# Altium integrated library Cypress Clocks & Buffers Clock Distribution.IntLib: 321 symbols (part 4 of 25)
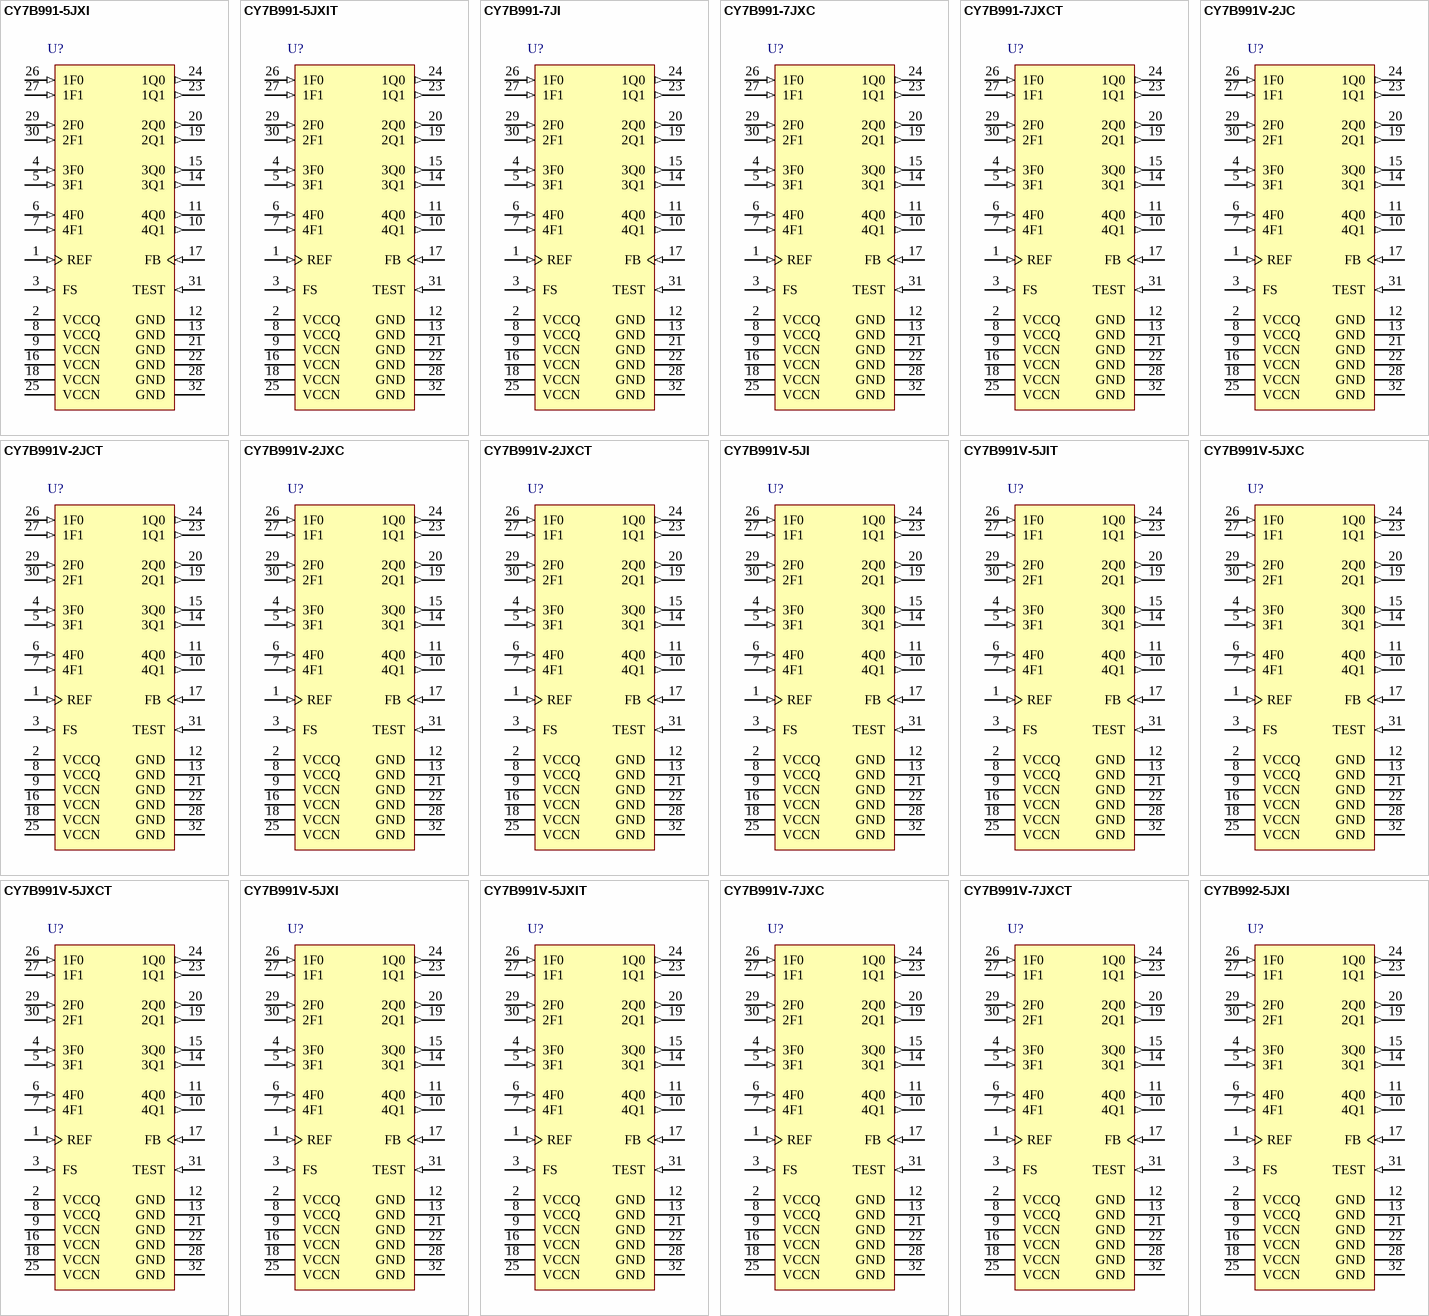
[diagram p19: symbols CY7B991-5JXI to CY7B992-5JXI]

## CY7B991-7JXC
designator U?
Programmable Skew Clock Buffer, 5 V, 8 Outputs, 3.75 to 80 MHz, 0 to 70 degC, 32-Pin PLCC (JX32), Tube; Manufacturer: Cypress; PartNumber: CY7B991-7JXC; Input Frequency Max. (MHz): 80; Input Frequency Min. (MHz): 3.75; Max. Operating Voltage (V): 5.5; Min. Operating Voltage (V): 4.5; No. of Outputs: 8; DatasheetVersion: Rev. *K; PackageVersion: Rev. *D, 07/2011; PackageReference: JX32; PackageDescription: 32-Pin Plastic Leaded Chip Carrier, Body 13.97 x 11.43 mm, Pitch 1.27 mm; Supplier 1: Digi-Key; Supplier Part Number 1: 428-1717-5-ND; Supplier 2: Farnell; Supplier Part Number 2: 1876333; Supplier 3: Newark; Supplier Part Number 3: 19M2623; Supplier 4: Mouser; Supplier Part Number 4: 727-CY7B991-7JXC; Max. Operating Temp. (degreesC): 70; Min. Operating Temp. (degreesC): 0; Output Frequency Max. (MHz): 80; Output Frequency Min. (MHz): 3.75; Packing: Tube; RoHS: Pb-Free; Mounting Technology: Surface Mount; ComponentLink1Description: Manufacturer URL; ComponentLink1URL: http://www.cypress.com/; ComponentLink2Description: Datasheet; ComponentLink2URL: http://www.cypress.com/?docID=48627; ComponentLink3Description: Package Specification; ComponentLink3URL: http://www.cypress.com/?docID=39130
footprint CYP-JX32_N (PLCC, 32-Leads, Body 14.05x11.51mm, Pitch 1.27mm, IPC Medium Density)
footprint CYP-JX32_L (PLCC, 32-Leads, Body 14.05x11.51mm, Pitch 1.27mm, IPC High Density)
footprint CYP-JX32_M (PLCC, 32-Leads, Body 14.05x11.51mm, Pitch 1.27mm, IPC Low Density)
pins: 1 REF (in) "Reference frequency input. This input supplies the frequency and timing against which all functional variations are measured.", 2 VCCQ (power) "Power supply for internal circuitry.", 3 FS (in) "Three level frequency range select. See Table 1.", 4 3F0 (in) "Three level function select inputs for output pair 3 (3Q0, 3Q1). See Table 2.", 5 3F1 (in) "Three level function select inputs for output pair 3 (3Q0, 3Q1). See Table 2.", 6 4F0 (in) "Three level function select inputs for output pair 4 (4Q0, 4Q1). See Table 2.", 7 4F1 (in) "Three level function select inputs for output pair 4 (4Q0, 4Q1). See Table 2.", 8 VCCQ (power) "Power supply for internal circuitry.", 9 VCCN (power) "Power supply for output drivers.", 10 4Q1 (out) "Output pair 4. See Table 2.", 11 4Q0 (out) "Output pair 4. See Table 2.", 12 GND (power) "Ground.", 13 GND (power) "Ground.", 14 3Q1 (out) "Output pair 3. See Table 2.", 15 3Q0 (out) "Output pair 3. See Table 2.", 16 VCCN (power) "Power supply for output drivers.", 17 FB (in) "PLL feedback input (typically connected to one of the eight outputs).", 18 VCCN (power) "Power supply for output drivers.", 19 2Q1 (out) "Output pair 2. See Table 2.", 20 2Q0 (out) "Output pair 2. See Table 2.", 21 GND (power) "Ground.", 22 GND (power) "Ground.", 23 1Q1 (out) "Output pair 1. See Table 2.", 24 1Q0 (out) "Output pair 1. See Table 2.", 25 VCCN (power) "Power supply for output drivers.", 26 1F0 (in) "Three level function select inputs for output pair 1 (1Q0, 1Q1). See Table 2.", 27 1F1 (in) "Three level function select inputs for output pair 1 (1Q0, 1Q1). See Table 2.", 28 GND (power) "Ground.", 29 2F0 (in) "Three level function select inputs for output pair 2 (2Q0, 2Q1). See Table 2.", 30 2F1 (in) "Three level function select inputs for output pair 2 (2Q0, 2Q1). See Table 2.", 31 TEST (in) "Three level select. See Test Mode on page 5 under the Block Diagram Description on page 4.", 32 GND (power) "Ground."

## CY7B991-7JXCT
designator U?
Programmable Skew Clock Buffer, 5 V, 8 Outputs, 3.75 to 80 MHz, 0 to 70 degC, 32-Pin PLCC (JX32), Tape and Reel; Manufacturer: Cypress; PartNumber: CY7B991-7JXCT; Input Frequency Max. (MHz): 80; Input Frequency Min. (MHz): 3.75; Max. Operating Voltage (V): 5.5; Min. Operating Voltage (V): 4.5; No. of Outputs: 8; DatasheetVersion: Rev. *K; PackageVersion: Rev. *D, 07/2011; PackageReference: JX32; PackageDescription: 32-Pin Plastic Leaded Chip Carrier, Body 13.97 x 11.43 mm, Pitch 1.27 mm; Supplier 1: Digi-Key; Supplier Part Number 1: CY7B991-7JXCT-ND; Supplier 2: Mouser; Supplier Part Number 2: 727-CY7B9917JXCT; Max. Operating Temp. (degreesC): 70; Min. Operating Temp. (degreesC): 0; Output Frequency Max. (MHz): 80; Output Frequency Min. (MHz): 3.75; Packing: Tape and Reel; RoHS: Pb-Free; Mounting Technology: Surface Mount; ComponentLink1Description: Manufacturer URL; ComponentLink1URL: http://www.cypress.com/; ComponentLink2Description: Datasheet; ComponentLink2URL: http://www.cypress.com/?docID=48627; ComponentLink3Description: Package Specification; ComponentLink3URL: http://www.cypress.com/?docID=39130
footprint CYP-JX32_N (PLCC, 32-Leads, Body 14.05x11.51mm, Pitch 1.27mm, IPC Medium Density)
footprint CYP-JX32_L (PLCC, 32-Leads, Body 14.05x11.51mm, Pitch 1.27mm, IPC High Density)
footprint CYP-JX32_M (PLCC, 32-Leads, Body 14.05x11.51mm, Pitch 1.27mm, IPC Low Density)
pins: 1 REF (in) "Reference frequency input. This input supplies the frequency and timing against which all functional variations are measured.", 2 VCCQ (power) "Power supply for internal circuitry.", 3 FS (in) "Three level frequency range select. See Table 1.", 4 3F0 (in) "Three level function select inputs for output pair 3 (3Q0, 3Q1). See Table 2.", 5 3F1 (in) "Three level function select inputs for output pair 3 (3Q0, 3Q1). See Table 2.", 6 4F0 (in) "Three level function select inputs for output pair 4 (4Q0, 4Q1). See Table 2.", 7 4F1 (in) "Three level function select inputs for output pair 4 (4Q0, 4Q1). See Table 2.", 8 VCCQ (power) "Power supply for internal circuitry.", 9 VCCN (power) "Power supply for output drivers.", 10 4Q1 (out) "Output pair 4. See Table 2.", 11 4Q0 (out) "Output pair 4. See Table 2.", 12 GND (power) "Ground.", 13 GND (power) "Ground.", 14 3Q1 (out) "Output pair 3. See Table 2.", 15 3Q0 (out) "Output pair 3. See Table 2.", 16 VCCN (power) "Power supply for output drivers.", 17 FB (in) "PLL feedback input (typically connected to one of the eight outputs).", 18 VCCN (power) "Power supply for output drivers.", 19 2Q1 (out) "Output pair 2. See Table 2.", 20 2Q0 (out) "Output pair 2. See Table 2.", 21 GND (power) "Ground.", 22 GND (power) "Ground.", 23 1Q1 (out) "Output pair 1. See Table 2.", 24 1Q0 (out) "Output pair 1. See Table 2.", 25 VCCN (power) "Power supply for output drivers.", 26 1F0 (in) "Three level function select inputs for output pair 1 (1Q0, 1Q1). See Table 2.", 27 1F1 (in) "Three level function select inputs for output pair 1 (1Q0, 1Q1). See Table 2.", 28 GND (power) "Ground.", 29 2F0 (in) "Three level function select inputs for output pair 2 (2Q0, 2Q1). See Table 2.", 30 2F1 (in) "Three level function select inputs for output pair 2 (2Q0, 2Q1). See Table 2.", 31 TEST (in) "Three level select. See Test Mode on page 5 under the Block Diagram Description on page 4.", 32 GND (power) "Ground."

## CY7B991V-2JC
designator U?
RoboClock(R) Low Voltage Programmable Skew Clock Buffer, 3.3 V, 8 Outputs, 3.75 to 80 MHz, 0 to 70 degC, 32-Pin PLCC (JX32), Tube; Manufacturer: Cypress; PartNumber: CY7B991V-2JC; Input Frequency Max. (MHz): 80; Input Frequency Min. (MHz): 3.75; Max. Operating Voltage (V): 3.6; Min. Operating Voltage (V): 3; No. of Outputs: 8; DatasheetVersion: Rev. *H; PackageVersion: Rev. *D, 07/2011; PackageReference: JX32; PackageDescription: 32-Pin Plastic Leaded Chip Carrier, Body 13.97 x 11.43 mm, Pitch 1.27 mm; Supplier 1: Digi-Key; Supplier Part Number 1: 428-1382-ND; Supplier 2: Mouser; Supplier Part Number 2: 727-CY7B991V2JC; Max. Operating Temp. (degreesC): 70; Min. Operating Temp. (degreesC): 0; Output Frequency Max. (MHz): 80; Output Frequency Min. (MHz): 3.75; Packing: Tube; Mounting Technology: Surface Mount; ComponentLink1Description: Manufacturer URL; ComponentLink1URL: http://www.cypress.com/; ComponentLink2Description: Datasheet; ComponentLink2URL: http://www.cypress.com/?docID=46286; ComponentLink3Description: Package Specification; ComponentLink3URL: http://www.cypress.com/?docID=39130
footprint CYP-JX32_N (PLCC, 32-Leads, Body 14.05x11.51mm, Pitch 1.27mm, IPC Medium Density)
footprint CYP-JX32_L (PLCC, 32-Leads, Body 14.05x11.51mm, Pitch 1.27mm, IPC High Density)
footprint CYP-JX32_M (PLCC, 32-Leads, Body 14.05x11.51mm, Pitch 1.27mm, IPC Low Density)
pins: 1 REF (in) "Reference frequency input. This input supplies the frequency and timing against which all functional variations are measured.", 2 VCCQ (power) "Power supply for internal circuitry.", 3 FS (in) "Three level frequency range select. See Table 1.", 4 3F0 (in) "Three level function select inputs for output pair 3 (3Q0, 3Q1). See Table 2.", 5 3F1 (in) "Three level function select inputs for output pair 3 (3Q0, 3Q1). See Table 2.", 6 4F0 (in) "Three level function select inputs for output pair 4 (4Q0, 4Q1). See Table 2.", 7 4F1 (in) "Three level function select inputs for output pair 4 (4Q0, 4Q1). See Table 2.", 8 VCCQ (power) "Power supply for internal circuitry.", 9 VCCN (power) "Power supply for output drivers.", 10 4Q1 (out) "Output pair 4. See Table 2.", 11 4Q0 (out) "Output pair 4. See Table 2.", 12 GND (power) "Ground.", 13 GND (power) "Ground.", 14 3Q1 (out) "Output pair 3. See Table 2.", 15 3Q0 (out) "Output pair 3. See Table 2.", 16 VCCN (power) "Power supply for output drivers.", 17 FB (in) "PLL feedback input (typically connected to one of the eight outputs).", 18 VCCN (power) "Power supply for output drivers.", 19 2Q1 (out) "Output pair 2. See Table 2.", 20 2Q0 (out) "Output pair 2. See Table 2.", 21 GND (power) "Ground.", 22 GND (power) "Ground.", 23 1Q1 (out) "Output pair 1. See Table 2.", 24 1Q0 (out) "Output pair 1. See Table 2.", 25 VCCN (power) "Power supply for output drivers.", 26 1F0 (in) "Three level function select inputs for output pair 1 (1Q0, 1Q1). See Table 2.", 27 1F1 (in) "Three level function select inputs for output pair 1 (1Q0, 1Q1). See Table 2.", 28 GND (power) "Ground.", 29 2F0 (in) "Three level function select inputs for output pair 2 (2Q0, 2Q1). See Table 2.", 30 2F1 (in) "Three level function select inputs for output pair 2 (2Q0, 2Q1). See Table 2.", 31 TEST (in) "Three level select. See Test Mode on page 5 under the Block Diagram Description on page 4.", 32 GND (power) "Ground."

## CY7B991V-2JCT
designator U?
RoboClock(R) Low Voltage Programmable Skew Clock Buffer, 3.3 V, 8 Outputs, 3.75 to 80 MHz, 0 to 70 degC, 32-Pin PLCC (JX32), Tape and Reel; Manufacturer: Cypress; PartNumber: CY7B991V-2JCT; Input Frequency Max. (MHz): 80; Input Frequency Min. (MHz): 3.75; Max. Operating Voltage (V): 3.6; Min. Operating Voltage (V): 3; No. of Outputs: 8; DatasheetVersion: Rev. *H; PackageVersion: Rev. *D, 07/2011; PackageReference: JX32; PackageDescription: 32-Pin Plastic Leaded Chip Carrier, Body 13.97 x 11.43 mm, Pitch 1.27 mm; Supplier 1: Mouser; Supplier Part Number 1: N/A; Max. Operating Temp. (degreesC): 70; Min. Operating Temp. (degreesC): 0; Output Frequency Max. (MHz): 80; Output Frequency Min. (MHz): 3.75; Packing: Tape and Reel; Mounting Technology: Surface Mount; ComponentLink1Description: Manufacturer URL; ComponentLink1URL: http://www.cypress.com/; ComponentLink2Description: Datasheet; ComponentLink2URL: http://www.cypress.com/?docID=46286; ComponentLink3Description: Package Specification; ComponentLink3URL: http://www.cypress.com/?docID=39130
footprint CYP-JX32_N (PLCC, 32-Leads, Body 14.05x11.51mm, Pitch 1.27mm, IPC Medium Density)
footprint CYP-JX32_L (PLCC, 32-Leads, Body 14.05x11.51mm, Pitch 1.27mm, IPC High Density)
footprint CYP-JX32_M (PLCC, 32-Leads, Body 14.05x11.51mm, Pitch 1.27mm, IPC Low Density)
pins: 1 REF (in) "Reference frequency input. This input supplies the frequency and timing against which all functional variations are measured.", 2 VCCQ (power) "Power supply for internal circuitry.", 3 FS (in) "Three level frequency range select. See Table 1.", 4 3F0 (in) "Three level function select inputs for output pair 3 (3Q0, 3Q1). See Table 2.", 5 3F1 (in) "Three level function select inputs for output pair 3 (3Q0, 3Q1). See Table 2.", 6 4F0 (in) "Three level function select inputs for output pair 4 (4Q0, 4Q1). See Table 2.", 7 4F1 (in) "Three level function select inputs for output pair 4 (4Q0, 4Q1). See Table 2.", 8 VCCQ (power) "Power supply for internal circuitry.", 9 VCCN (power) "Power supply for output drivers.", 10 4Q1 (out) "Output pair 4. See Table 2.", 11 4Q0 (out) "Output pair 4. See Table 2.", 12 GND (power) "Ground.", 13 GND (power) "Ground.", 14 3Q1 (out) "Output pair 3. See Table 2.", 15 3Q0 (out) "Output pair 3. See Table 2.", 16 VCCN (power) "Power supply for output drivers.", 17 FB (in) "PLL feedback input (typically connected to one of the eight outputs).", 18 VCCN (power) "Power supply for output drivers.", 19 2Q1 (out) "Output pair 2. See Table 2.", 20 2Q0 (out) "Output pair 2. See Table 2.", 21 GND (power) "Ground.", 22 GND (power) "Ground.", 23 1Q1 (out) "Output pair 1. See Table 2.", 24 1Q0 (out) "Output pair 1. See Table 2.", 25 VCCN (power) "Power supply for output drivers.", 26 1F0 (in) "Three level function select inputs for output pair 1 (1Q0, 1Q1). See Table 2.", 27 1F1 (in) "Three level function select inputs for output pair 1 (1Q0, 1Q1). See Table 2.", 28 GND (power) "Ground.", 29 2F0 (in) "Three level function select inputs for output pair 2 (2Q0, 2Q1). See Table 2.", 30 2F1 (in) "Three level function select inputs for output pair 2 (2Q0, 2Q1). See Table 2.", 31 TEST (in) "Three level select. See Test Mode on page 5 under the Block Diagram Description on page 4.", 32 GND (power) "Ground."

## CY7B991V-2JXC
designator U?
RoboClock(R) Low Voltage Programmable Skew Clock Buffer, 3.3 V, 8 Outputs, 3.75 to 80 MHz, 0 to 70 degC, 32-Pin PLCC (JX32), Tube; Manufacturer: Cypress; PartNumber: CY7B991V-2JXC; Input Frequency Max. (MHz): 80; Input Frequency Min. (MHz): 3.75; Max. Operating Voltage (V): 3.6; Min. Operating Voltage (V): 3; No. of Outputs: 8; DatasheetVersion: Rev. *H; PackageVersion: Rev. *D, 07/2011; PackageReference: JX32; PackageDescription: 32-Pin Plastic Leaded Chip Carrier, Body 13.97 x 11.43 mm, Pitch 1.27 mm; Supplier 1: Digi-Key; Supplier Part Number 1: 428-1718-5-ND; Supplier 2: Mouser; Supplier Part Number 2: 727-CY7B991V-2JXC; Max. Operating Temp. (degreesC): 70; Min. Operating Temp. (degreesC): 0; Output Frequency Max. (MHz): 80; Output Frequency Min. (MHz): 3.75; Packing: Tube; RoHS: Pb-Free; Mounting Technology: Surface Mount; ComponentLink1Description: Manufacturer URL; ComponentLink1URL: http://www.cypress.com/; ComponentLink2Description: Datasheet; ComponentLink2URL: http://www.cypress.com/?docID=46286; ComponentLink3Description: Package Specification; ComponentLink3URL: http://www.cypress.com/?docID=39130
footprint CYP-JX32_N (PLCC, 32-Leads, Body 14.05x11.51mm, Pitch 1.27mm, IPC Medium Density)
footprint CYP-JX32_L (PLCC, 32-Leads, Body 14.05x11.51mm, Pitch 1.27mm, IPC High Density)
footprint CYP-JX32_M (PLCC, 32-Leads, Body 14.05x11.51mm, Pitch 1.27mm, IPC Low Density)
pins: 1 REF (in) "Reference frequency input. This input supplies the frequency and timing against which all functional variations are measured.", 2 VCCQ (power) "Power supply for internal circuitry.", 3 FS (in) "Three level frequency range select. See Table 1.", 4 3F0 (in) "Three level function select inputs for output pair 3 (3Q0, 3Q1). See Table 2.", 5 3F1 (in) "Three level function select inputs for output pair 3 (3Q0, 3Q1). See Table 2.", 6 4F0 (in) "Three level function select inputs for output pair 4 (4Q0, 4Q1). See Table 2.", 7 4F1 (in) "Three level function select inputs for output pair 4 (4Q0, 4Q1). See Table 2.", 8 VCCQ (power) "Power supply for internal circuitry.", 9 VCCN (power) "Power supply for output drivers.", 10 4Q1 (out) "Output pair 4. See Table 2.", 11 4Q0 (out) "Output pair 4. See Table 2.", 12 GND (power) "Ground.", 13 GND (power) "Ground.", 14 3Q1 (out) "Output pair 3. See Table 2.", 15 3Q0 (out) "Output pair 3. See Table 2.", 16 VCCN (power) "Power supply for output drivers.", 17 FB (in) "PLL feedback input (typically connected to one of the eight outputs).", 18 VCCN (power) "Power supply for output drivers.", 19 2Q1 (out) "Output pair 2. See Table 2.", 20 2Q0 (out) "Output pair 2. See Table 2.", 21 GND (power) "Ground.", 22 GND (power) "Ground.", 23 1Q1 (out) "Output pair 1. See Table 2.", 24 1Q0 (out) "Output pair 1. See Table 2.", 25 VCCN (power) "Power supply for output drivers.", 26 1F0 (in) "Three level function select inputs for output pair 1 (1Q0, 1Q1). See Table 2.", 27 1F1 (in) "Three level function select inputs for output pair 1 (1Q0, 1Q1). See Table 2.", 28 GND (power) "Ground.", 29 2F0 (in) "Three level function select inputs for output pair 2 (2Q0, 2Q1). See Table 2.", 30 2F1 (in) "Three level function select inputs for output pair 2 (2Q0, 2Q1). See Table 2.", 31 TEST (in) "Three level select. See Test Mode on page 5 under the Block Diagram Description on page 4.", 32 GND (power) "Ground."

## CY7B991V-2JXCT
designator U?
RoboClock(R) Low Voltage Programmable Skew Clock Buffer, 3.3 V, 8 Outputs, 3.75 to 80 MHz, 0 to 70 degC, 32-Pin PLCC (JX32), Tape and Reel; Manufacturer: Cypress; PartNumber: CY7B991V-2JXCT; Input Frequency Max. (MHz): 80; Input Frequency Min. (MHz): 3.75; Max. Operating Voltage (V): 3.6; Min. Operating Voltage (V): 3; No. of Outputs: 8; DatasheetVersion: Rev. *H; PackageVersion: Rev. *D, 07/2011; PackageReference: JX32; PackageDescription: 32-Pin Plastic Leaded Chip Carrier, Body 13.97 x 11.43 mm, Pitch 1.27 mm; Supplier 1: Digi-Key; Supplier Part Number 1: CY7B991V-2JXCT-ND; Supplier 2: Newark; Supplier Part Number 2: 19M6550; Supplier 3: Mouser; Supplier Part Number 3: 727-CY7B991V2JXCT; Max. Operating Temp. (degreesC): 70; Min. Operating Temp. (degreesC): 0; Output Frequency Max. (MHz): 80; Output Frequency Min. (MHz): 3.75; Packing: Tape and Reel; RoHS: Pb-Free; Mounting Technology: Surface Mount; ComponentLink1Description: Manufacturer URL; ComponentLink1URL: http://www.cypress.com/; ComponentLink2Description: Datasheet; ComponentLink2URL: http://www.cypress.com/?docID=46286; ComponentLink3Description: Package Specification; ComponentLink3URL: http://www.cypress.com/?docID=39130
footprint CYP-JX32_N (PLCC, 32-Leads, Body 14.05x11.51mm, Pitch 1.27mm, IPC Medium Density)
footprint CYP-JX32_L (PLCC, 32-Leads, Body 14.05x11.51mm, Pitch 1.27mm, IPC High Density)
footprint CYP-JX32_M (PLCC, 32-Leads, Body 14.05x11.51mm, Pitch 1.27mm, IPC Low Density)
pins: 1 REF (in) "Reference frequency input. This input supplies the frequency and timing against which all functional variations are measured.", 2 VCCQ (power) "Power supply for internal circuitry.", 3 FS (in) "Three level frequency range select. See Table 1.", 4 3F0 (in) "Three level function select inputs for output pair 3 (3Q0, 3Q1). See Table 2.", 5 3F1 (in) "Three level function select inputs for output pair 3 (3Q0, 3Q1). See Table 2.", 6 4F0 (in) "Three level function select inputs for output pair 4 (4Q0, 4Q1). See Table 2.", 7 4F1 (in) "Three level function select inputs for output pair 4 (4Q0, 4Q1). See Table 2.", 8 VCCQ (power) "Power supply for internal circuitry.", 9 VCCN (power) "Power supply for output drivers.", 10 4Q1 (out) "Output pair 4. See Table 2.", 11 4Q0 (out) "Output pair 4. See Table 2.", 12 GND (power) "Ground.", 13 GND (power) "Ground.", 14 3Q1 (out) "Output pair 3. See Table 2.", 15 3Q0 (out) "Output pair 3. See Table 2.", 16 VCCN (power) "Power supply for output drivers.", 17 FB (in) "PLL feedback input (typically connected to one of the eight outputs).", 18 VCCN (power) "Power supply for output drivers.", 19 2Q1 (out) "Output pair 2. See Table 2.", 20 2Q0 (out) "Output pair 2. See Table 2.", 21 GND (power) "Ground.", 22 GND (power) "Ground.", 23 1Q1 (out) "Output pair 1. See Table 2.", 24 1Q0 (out) "Output pair 1. See Table 2.", 25 VCCN (power) "Power supply for output drivers.", 26 1F0 (in) "Three level function select inputs for output pair 1 (1Q0, 1Q1). See Table 2.", 27 1F1 (in) "Three level function select inputs for output pair 1 (1Q0, 1Q1). See Table 2.", 28 GND (power) "Ground.", 29 2F0 (in) "Three level function select inputs for output pair 2 (2Q0, 2Q1). See Table 2.", 30 2F1 (in) "Three level function select inputs for output pair 2 (2Q0, 2Q1). See Table 2.", 31 TEST (in) "Three level select. See Test Mode on page 5 under the Block Diagram Description on page 4.", 32 GND (power) "Ground."

## CY7B991V-5JI
designator U?
RoboClock(R) Low Voltage Programmable Skew Clock Buffer, 3.3 V, 8 Outputs, 3.75 to 80 MHz, -40 to 85 degC, 32-Pin PLCC (JX32), Tube; Manufacturer: Cypress; PartNumber: CY7B991V-5JI; Input Frequency Max. (MHz): 80; Input Frequency Min. (MHz): 3.75; Max. Operating Voltage (V): 3.6; Min. Operating Voltage (V): 3; No. of Outputs: 8; DatasheetVersion: Rev. *H; PackageVersion: Rev. *D, 07/2011; PackageReference: JX32; PackageDescription: 32-Pin Plastic Leaded Chip Carrier, Body 13.97 x 11.43 mm, Pitch 1.27 mm; Supplier 1: Digi-Key; Supplier Part Number 1: CY7B991V-5JI-ND; Supplier 2: Mouser; Supplier Part Number 2: 727-CY7B991V5JI; Max. Operating Temp. (degreesC): 85; Min. Operating Temp. (degreesC): -40; Output Frequency Max. (MHz): 80; Output Frequency Min. (MHz): 3.75; Packing: Tube; Mounting Technology: Surface Mount; ComponentLink1Description: Manufacturer URL; ComponentLink1URL: http://www.cypress.com/; ComponentLink2Description: Datasheet; ComponentLink2URL: http://www.cypress.com/?docID=46286; ComponentLink3Description: Package Specification; ComponentLink3URL: http://www.cypress.com/?docID=39130
footprint CYP-JX32_N (PLCC, 32-Leads, Body 14.05x11.51mm, Pitch 1.27mm, IPC Medium Density)
footprint CYP-JX32_L (PLCC, 32-Leads, Body 14.05x11.51mm, Pitch 1.27mm, IPC High Density)
footprint CYP-JX32_M (PLCC, 32-Leads, Body 14.05x11.51mm, Pitch 1.27mm, IPC Low Density)
pins: 1 REF (in) "Reference frequency input. This input supplies the frequency and timing against which all functional variations are measured.", 2 VCCQ (power) "Power supply for internal circuitry.", 3 FS (in) "Three level frequency range select. See Table 1.", 4 3F0 (in) "Three level function select inputs for output pair 3 (3Q0, 3Q1). See Table 2.", 5 3F1 (in) "Three level function select inputs for output pair 3 (3Q0, 3Q1). See Table 2.", 6 4F0 (in) "Three level function select inputs for output pair 4 (4Q0, 4Q1). See Table 2.", 7 4F1 (in) "Three level function select inputs for output pair 4 (4Q0, 4Q1). See Table 2.", 8 VCCQ (power) "Power supply for internal circuitry.", 9 VCCN (power) "Power supply for output drivers.", 10 4Q1 (out) "Output pair 4. See Table 2.", 11 4Q0 (out) "Output pair 4. See Table 2.", 12 GND (power) "Ground.", 13 GND (power) "Ground.", 14 3Q1 (out) "Output pair 3. See Table 2.", 15 3Q0 (out) "Output pair 3. See Table 2.", 16 VCCN (power) "Power supply for output drivers.", 17 FB (in) "PLL feedback input (typically connected to one of the eight outputs).", 18 VCCN (power) "Power supply for output drivers.", 19 2Q1 (out) "Output pair 2. See Table 2.", 20 2Q0 (out) "Output pair 2. See Table 2.", 21 GND (power) "Ground.", 22 GND (power) "Ground.", 23 1Q1 (out) "Output pair 1. See Table 2.", 24 1Q0 (out) "Output pair 1. See Table 2.", 25 VCCN (power) "Power supply for output drivers.", 26 1F0 (in) "Three level function select inputs for output pair 1 (1Q0, 1Q1). See Table 2.", 27 1F1 (in) "Three level function select inputs for output pair 1 (1Q0, 1Q1). See Table 2.", 28 GND (power) "Ground.", 29 2F0 (in) "Three level function select inputs for output pair 2 (2Q0, 2Q1). See Table 2.", 30 2F1 (in) "Three level function select inputs for output pair 2 (2Q0, 2Q1). See Table 2.", 31 TEST (in) "Three level select. See Test Mode on page 5 under the Block Diagram Description on page 4.", 32 GND (power) "Ground."

## CY7B991V-5JIT
designator U?
RoboClock(R) Low Voltage Programmable Skew Clock Buffer, 3.3 V, 8 Outputs, 3.75 to 80 MHz, -40 to 85 degC, 32-Pin PLCC (JX32), Tape and Reel; Manufacturer: Cypress; PartNumber: CY7B991V-5JIT; Input Frequency Max. (MHz): 80; Input Frequency Min. (MHz): 3.75; Max. Operating Voltage (V): 3.6; Min. Operating Voltage (V): 3; No. of Outputs: 8; DatasheetVersion: Rev. *H; PackageVersion: Rev. *D, 07/2011; PackageReference: JX32; PackageDescription: 32-Pin Plastic Leaded Chip Carrier, Body 13.97 x 11.43 mm, Pitch 1.27 mm; Supplier 1: Mouser; Supplier Part Number 1: N/A; Max. Operating Temp. (degreesC): 85; Min. Operating Temp. (degreesC): -40; Output Frequency Max. (MHz): 80; Output Frequency Min. (MHz): 3.75; Packing: Tape and Reel; Mounting Technology: Surface Mount; ComponentLink1Description: Manufacturer URL; ComponentLink1URL: http://www.cypress.com/; ComponentLink2Description: Datasheet; ComponentLink2URL: http://www.cypress.com/?docID=46286; ComponentLink3Description: Package Specification; ComponentLink3URL: http://www.cypress.com/?docID=39130
footprint CYP-JX32_N (PLCC, 32-Leads, Body 14.05x11.51mm, Pitch 1.27mm, IPC Medium Density)
footprint CYP-JX32_L (PLCC, 32-Leads, Body 14.05x11.51mm, Pitch 1.27mm, IPC High Density)
footprint CYP-JX32_M (PLCC, 32-Leads, Body 14.05x11.51mm, Pitch 1.27mm, IPC Low Density)
pins: 1 REF (in) "Reference frequency input. This input supplies the frequency and timing against which all functional variations are measured.", 2 VCCQ (power) "Power supply for internal circuitry.", 3 FS (in) "Three level frequency range select. See Table 1.", 4 3F0 (in) "Three level function select inputs for output pair 3 (3Q0, 3Q1). See Table 2.", 5 3F1 (in) "Three level function select inputs for output pair 3 (3Q0, 3Q1). See Table 2.", 6 4F0 (in) "Three level function select inputs for output pair 4 (4Q0, 4Q1). See Table 2.", 7 4F1 (in) "Three level function select inputs for output pair 4 (4Q0, 4Q1). See Table 2.", 8 VCCQ (power) "Power supply for internal circuitry.", 9 VCCN (power) "Power supply for output drivers.", 10 4Q1 (out) "Output pair 4. See Table 2.", 11 4Q0 (out) "Output pair 4. See Table 2.", 12 GND (power) "Ground.", 13 GND (power) "Ground.", 14 3Q1 (out) "Output pair 3. See Table 2.", 15 3Q0 (out) "Output pair 3. See Table 2.", 16 VCCN (power) "Power supply for output drivers.", 17 FB (in) "PLL feedback input (typically connected to one of the eight outputs).", 18 VCCN (power) "Power supply for output drivers.", 19 2Q1 (out) "Output pair 2. See Table 2.", 20 2Q0 (out) "Output pair 2. See Table 2.", 21 GND (power) "Ground.", 22 GND (power) "Ground.", 23 1Q1 (out) "Output pair 1. See Table 2.", 24 1Q0 (out) "Output pair 1. See Table 2.", 25 VCCN (power) "Power supply for output drivers.", 26 1F0 (in) "Three level function select inputs for output pair 1 (1Q0, 1Q1). See Table 2.", 27 1F1 (in) "Three level function select inputs for output pair 1 (1Q0, 1Q1). See Table 2.", 28 GND (power) "Ground.", 29 2F0 (in) "Three level function select inputs for output pair 2 (2Q0, 2Q1). See Table 2.", 30 2F1 (in) "Three level function select inputs for output pair 2 (2Q0, 2Q1). See Table 2.", 31 TEST (in) "Three level select. See Test Mode on page 5 under the Block Diagram Description on page 4.", 32 GND (power) "Ground."

## CY7B991V-5JXC
designator U?
RoboClock(R) Low Voltage Programmable Skew Clock Buffer, 3.3 V, 8 Outputs, 3.75 to 80 MHz, 0 to 70 degC, 32-Pin PLCC (JX32), Tube; Manufacturer: Cypress; PartNumber: CY7B991V-5JXC; Input Frequency Max. (MHz): 80; Input Frequency Min. (MHz): 3.75; Max. Operating Voltage (V): 3.6; Min. Operating Voltage (V): 3; No. of Outputs: 8; DatasheetVersion: Rev. *H; PackageVersion: Rev. *D, 07/2011; PackageReference: JX32; PackageDescription: 32-Pin Plastic Leaded Chip Carrier, Body 13.97 x 11.43 mm, Pitch 1.27 mm; Supplier 1: Digi-Key; Supplier Part Number 1: 428-2243-5-ND; Supplier 2: Farnell; Supplier Part Number 2: 1876334; Supplier 3: Newark; Supplier Part Number 3: 19M2630; Supplier 4: Mouser; Supplier Part Number 4: 727-CY7B991V-5JXC; Max. Operating Temp. (degreesC): 70; Min. Operating Temp. (degreesC): 0; Output Frequency Max. (MHz): 80; Output Frequency Min. (MHz): 3.75; Packing: Tube; RoHS: Pb-Free; Mounting Technology: Surface Mount; ComponentLink1Description: Manufacturer URL; ComponentLink1URL: http://www.cypress.com/; ComponentLink2Description: Datasheet; ComponentLink2URL: http://www.cypress.com/?docID=46286; ComponentLink3Description: Package Specification; ComponentLink3URL: http://www.cypress.com/?docID=39130
footprint CYP-JX32_N (PLCC, 32-Leads, Body 14.05x11.51mm, Pitch 1.27mm, IPC Medium Density)
footprint CYP-JX32_L (PLCC, 32-Leads, Body 14.05x11.51mm, Pitch 1.27mm, IPC High Density)
footprint CYP-JX32_M (PLCC, 32-Leads, Body 14.05x11.51mm, Pitch 1.27mm, IPC Low Density)
pins: 1 REF (in) "Reference frequency input. This input supplies the frequency and timing against which all functional variations are measured.", 2 VCCQ (power) "Power supply for internal circuitry.", 3 FS (in) "Three level frequency range select. See Table 1.", 4 3F0 (in) "Three level function select inputs for output pair 3 (3Q0, 3Q1). See Table 2.", 5 3F1 (in) "Three level function select inputs for output pair 3 (3Q0, 3Q1). See Table 2.", 6 4F0 (in) "Three level function select inputs for output pair 4 (4Q0, 4Q1). See Table 2.", 7 4F1 (in) "Three level function select inputs for output pair 4 (4Q0, 4Q1). See Table 2.", 8 VCCQ (power) "Power supply for internal circuitry.", 9 VCCN (power) "Power supply for output drivers.", 10 4Q1 (out) "Output pair 4. See Table 2.", 11 4Q0 (out) "Output pair 4. See Table 2.", 12 GND (power) "Ground.", 13 GND (power) "Ground.", 14 3Q1 (out) "Output pair 3. See Table 2.", 15 3Q0 (out) "Output pair 3. See Table 2.", 16 VCCN (power) "Power supply for output drivers.", 17 FB (in) "PLL feedback input (typically connected to one of the eight outputs).", 18 VCCN (power) "Power supply for output drivers.", 19 2Q1 (out) "Output pair 2. See Table 2.", 20 2Q0 (out) "Output pair 2. See Table 2.", 21 GND (power) "Ground.", 22 GND (power) "Ground.", 23 1Q1 (out) "Output pair 1. See Table 2.", 24 1Q0 (out) "Output pair 1. See Table 2.", 25 VCCN (power) "Power supply for output drivers.", 26 1F0 (in) "Three level function select inputs for output pair 1 (1Q0, 1Q1). See Table 2.", 27 1F1 (in) "Three level function select inputs for output pair 1 (1Q0, 1Q1). See Table 2.", 28 GND (power) "Ground.", 29 2F0 (in) "Three level function select inputs for output pair 2 (2Q0, 2Q1). See Table 2.", 30 2F1 (in) "Three level function select inputs for output pair 2 (2Q0, 2Q1). See Table 2.", 31 TEST (in) "Three level select. See Test Mode on page 5 under the Block Diagram Description on page 4.", 32 GND (power) "Ground."

## CY7B991V-5JXCT
designator U?
RoboClock(R) Low Voltage Programmable Skew Clock Buffer, 3.3 V, 8 Outputs, 3.75 to 80 MHz, 0 to 70 degC, 32-Pin PLCC (JX32), Tape and Reel; Manufacturer: Cypress; PartNumber: CY7B991V-5JXCT; Input Frequency Max. (MHz): 80; Input Frequency Min. (MHz): 3.75; Max. Operating Voltage (V): 3.6; Min. Operating Voltage (V): 3; No. of Outputs: 8; DatasheetVersion: Rev. *H; PackageVersion: Rev. *D, 07/2011; PackageReference: JX32; PackageDescription: 32-Pin Plastic Leaded Chip Carrier, Body 13.97 x 11.43 mm, Pitch 1.27 mm; Supplier 1: Digi-Key; Supplier Part Number 1: CY7B991V-5JXCT-ND; Supplier 2: Newark; Supplier Part Number 2: 19M2631; Supplier 3: Mouser; Supplier Part Number 3: 727-CY7B991V5JXCT; Max. Operating Temp. (degreesC): 70; Min. Operating Temp. (degreesC): 0; Output Frequency Max. (MHz): 80; Output Frequency Min. (MHz): 3.75; Packing: Tape and Reel; RoHS: Pb-Free; Mounting Technology: Surface Mount; ComponentLink1Description: Manufacturer URL; ComponentLink1URL: http://www.cypress.com/; ComponentLink2Description: Datasheet; ComponentLink2URL: http://www.cypress.com/?docID=46286; ComponentLink3Description: Package Specification; ComponentLink3URL: http://www.cypress.com/?docID=39130
footprint CYP-JX32_N (PLCC, 32-Leads, Body 14.05x11.51mm, Pitch 1.27mm, IPC Medium Density)
footprint CYP-JX32_L (PLCC, 32-Leads, Body 14.05x11.51mm, Pitch 1.27mm, IPC High Density)
footprint CYP-JX32_M (PLCC, 32-Leads, Body 14.05x11.51mm, Pitch 1.27mm, IPC Low Density)
pins: 1 REF (in) "Reference frequency input. This input supplies the frequency and timing against which all functional variations are measured.", 2 VCCQ (power) "Power supply for internal circuitry.", 3 FS (in) "Three level frequency range select. See Table 1.", 4 3F0 (in) "Three level function select inputs for output pair 3 (3Q0, 3Q1). See Table 2.", 5 3F1 (in) "Three level function select inputs for output pair 3 (3Q0, 3Q1). See Table 2.", 6 4F0 (in) "Three level function select inputs for output pair 4 (4Q0, 4Q1). See Table 2.", 7 4F1 (in) "Three level function select inputs for output pair 4 (4Q0, 4Q1). See Table 2.", 8 VCCQ (power) "Power supply for internal circuitry.", 9 VCCN (power) "Power supply for output drivers.", 10 4Q1 (out) "Output pair 4. See Table 2.", 11 4Q0 (out) "Output pair 4. See Table 2.", 12 GND (power) "Ground.", 13 GND (power) "Ground.", 14 3Q1 (out) "Output pair 3. See Table 2.", 15 3Q0 (out) "Output pair 3. See Table 2.", 16 VCCN (power) "Power supply for output drivers.", 17 FB (in) "PLL feedback input (typically connected to one of the eight outputs).", 18 VCCN (power) "Power supply for output drivers.", 19 2Q1 (out) "Output pair 2. See Table 2.", 20 2Q0 (out) "Output pair 2. See Table 2.", 21 GND (power) "Ground.", 22 GND (power) "Ground.", 23 1Q1 (out) "Output pair 1. See Table 2.", 24 1Q0 (out) "Output pair 1. See Table 2.", 25 VCCN (power) "Power supply for output drivers.", 26 1F0 (in) "Three level function select inputs for output pair 1 (1Q0, 1Q1). See Table 2.", 27 1F1 (in) "Three level function select inputs for output pair 1 (1Q0, 1Q1). See Table 2.", 28 GND (power) "Ground.", 29 2F0 (in) "Three level function select inputs for output pair 2 (2Q0, 2Q1). See Table 2.", 30 2F1 (in) "Three level function select inputs for output pair 2 (2Q0, 2Q1). See Table 2.", 31 TEST (in) "Three level select. See Test Mode on page 5 under the Block Diagram Description on page 4.", 32 GND (power) "Ground."

## CY7B991V-5JXI
designator U?
RoboClock(R) Low Voltage Programmable Skew Clock Buffer, 3.3 V, 8 Outputs, 3.75 to 80 MHz, -40 to 85 degC, 32-Pin PLCC (JX32), Tube; Manufacturer: Cypress; PartNumber: CY7B991V-5JXI; Input Frequency Max. (MHz): 80; Input Frequency Min. (MHz): 3.75; Max. Operating Voltage (V): 3.6; Min. Operating Voltage (V): 3; No. of Outputs: 8; DatasheetVersion: Rev. *H; PackageVersion: Rev. *D, 07/2011; PackageReference: JX32; PackageDescription: 32-Pin Plastic Leaded Chip Carrier, Body 13.97 x 11.43 mm, Pitch 1.27 mm; Supplier 1: Digi-Key; Supplier Part Number 1: 428-2244-5-ND; Supplier 2: Farnell; Supplier Part Number 2: 1873021; Supplier 3: Newark; Supplier Part Number 3: 19M2632; Supplier 4: Mouser; Supplier Part Number 4: 727-CY7B991V-5JXI; Max. Operating Temp. (degreesC): 85; Min. Operating Temp. (degreesC): -40; Output Frequency Max. (MHz): 80; Output Frequency Min. (MHz): 3.75; Packing: Tube; RoHS: Pb-Free; Mounting Technology: Surface Mount; ComponentLink1Description: Manufacturer URL; ComponentLink1URL: http://www.cypress.com/; ComponentLink2Description: Datasheet; ComponentLink2URL: http://www.cypress.com/?docID=46286; ComponentLink3Description: Package Specification; ComponentLink3URL: http://www.cypress.com/?docID=39130
footprint CYP-JX32_N (PLCC, 32-Leads, Body 14.05x11.51mm, Pitch 1.27mm, IPC Medium Density)
footprint CYP-JX32_L (PLCC, 32-Leads, Body 14.05x11.51mm, Pitch 1.27mm, IPC High Density)
footprint CYP-JX32_M (PLCC, 32-Leads, Body 14.05x11.51mm, Pitch 1.27mm, IPC Low Density)
pins: 1 REF (in) "Reference frequency input. This input supplies the frequency and timing against which all functional variations are measured.", 2 VCCQ (power) "Power supply for internal circuitry.", 3 FS (in) "Three level frequency range select. See Table 1.", 4 3F0 (in) "Three level function select inputs for output pair 3 (3Q0, 3Q1). See Table 2.", 5 3F1 (in) "Three level function select inputs for output pair 3 (3Q0, 3Q1). See Table 2.", 6 4F0 (in) "Three level function select inputs for output pair 4 (4Q0, 4Q1). See Table 2.", 7 4F1 (in) "Three level function select inputs for output pair 4 (4Q0, 4Q1). See Table 2.", 8 VCCQ (power) "Power supply for internal circuitry.", 9 VCCN (power) "Power supply for output drivers.", 10 4Q1 (out) "Output pair 4. See Table 2.", 11 4Q0 (out) "Output pair 4. See Table 2.", 12 GND (power) "Ground.", 13 GND (power) "Ground.", 14 3Q1 (out) "Output pair 3. See Table 2.", 15 3Q0 (out) "Output pair 3. See Table 2.", 16 VCCN (power) "Power supply for output drivers.", 17 FB (in) "PLL feedback input (typically connected to one of the eight outputs).", 18 VCCN (power) "Power supply for output drivers.", 19 2Q1 (out) "Output pair 2. See Table 2.", 20 2Q0 (out) "Output pair 2. See Table 2.", 21 GND (power) "Ground.", 22 GND (power) "Ground.", 23 1Q1 (out) "Output pair 1. See Table 2.", 24 1Q0 (out) "Output pair 1. See Table 2.", 25 VCCN (power) "Power supply for output drivers.", 26 1F0 (in) "Three level function select inputs for output pair 1 (1Q0, 1Q1). See Table 2.", 27 1F1 (in) "Three level function select inputs for output pair 1 (1Q0, 1Q1). See Table 2.", 28 GND (power) "Ground.", 29 2F0 (in) "Three level function select inputs for output pair 2 (2Q0, 2Q1). See Table 2.", 30 2F1 (in) "Three level function select inputs for output pair 2 (2Q0, 2Q1). See Table 2.", 31 TEST (in) "Three level select. See Test Mode on page 5 under the Block Diagram Description on page 4.", 32 GND (power) "Ground."

## CY7B991V-5JXIT
designator U?
RoboClock(R) Low Voltage Programmable Skew Clock Buffer, 3.3 V, 8 Outputs, 3.75 to 80 MHz, -40 to 85 degC, 32-Pin PLCC (JX32), Tape and Reel; Manufacturer: Cypress; PartNumber: CY7B991V-5JXIT; Input Frequency Max. (MHz): 80; Input Frequency Min. (MHz): 3.75; Max. Operating Voltage (V): 3.6; Min. Operating Voltage (V): 3; No. of Outputs: 8; DatasheetVersion: Rev. *H; PackageVersion: Rev. *D, 07/2011; PackageReference: JX32; PackageDescription: 32-Pin Plastic Leaded Chip Carrier, Body 13.97 x 11.43 mm, Pitch 1.27 mm; Supplier 1: Digi-Key; Supplier Part Number 1: CY7B991V-5JXIT-ND; Supplier 2: Newark; Supplier Part Number 2: 19M2633; Supplier 3: Mouser; Supplier Part Number 3: 727-CY7B991V5JXIT; Max. Operating Temp. (degreesC): 85; Min. Operating Temp. (degreesC): -40; Output Frequency Max. (MHz): 80; Output Frequency Min. (MHz): 3.75; Packing: Tape and Reel; RoHS: Pb-Free; Mounting Technology: Surface Mount; ComponentLink1Description: Manufacturer URL; ComponentLink1URL: http://www.cypress.com/; ComponentLink2Description: Datasheet; ComponentLink2URL: http://www.cypress.com/?docID=46286; ComponentLink3Description: Package Specification; ComponentLink3URL: http://www.cypress.com/?docID=39130
footprint CYP-JX32_N (PLCC, 32-Leads, Body 14.05x11.51mm, Pitch 1.27mm, IPC Medium Density)
footprint CYP-JX32_L (PLCC, 32-Leads, Body 14.05x11.51mm, Pitch 1.27mm, IPC High Density)
footprint CYP-JX32_M (PLCC, 32-Leads, Body 14.05x11.51mm, Pitch 1.27mm, IPC Low Density)
pins: 1 REF (in) "Reference frequency input. This input supplies the frequency and timing against which all functional variations are measured.", 2 VCCQ (power) "Power supply for internal circuitry.", 3 FS (in) "Three level frequency range select. See Table 1.", 4 3F0 (in) "Three level function select inputs for output pair 3 (3Q0, 3Q1). See Table 2.", 5 3F1 (in) "Three level function select inputs for output pair 3 (3Q0, 3Q1). See Table 2.", 6 4F0 (in) "Three level function select inputs for output pair 4 (4Q0, 4Q1). See Table 2.", 7 4F1 (in) "Three level function select inputs for output pair 4 (4Q0, 4Q1). See Table 2.", 8 VCCQ (power) "Power supply for internal circuitry.", 9 VCCN (power) "Power supply for output drivers.", 10 4Q1 (out) "Output pair 4. See Table 2.", 11 4Q0 (out) "Output pair 4. See Table 2.", 12 GND (power) "Ground.", 13 GND (power) "Ground.", 14 3Q1 (out) "Output pair 3. See Table 2.", 15 3Q0 (out) "Output pair 3. See Table 2.", 16 VCCN (power) "Power supply for output drivers.", 17 FB (in) "PLL feedback input (typically connected to one of the eight outputs).", 18 VCCN (power) "Power supply for output drivers.", 19 2Q1 (out) "Output pair 2. See Table 2.", 20 2Q0 (out) "Output pair 2. See Table 2.", 21 GND (power) "Ground.", 22 GND (power) "Ground.", 23 1Q1 (out) "Output pair 1. See Table 2.", 24 1Q0 (out) "Output pair 1. See Table 2.", 25 VCCN (power) "Power supply for output drivers.", 26 1F0 (in) "Three level function select inputs for output pair 1 (1Q0, 1Q1). See Table 2.", 27 1F1 (in) "Three level function select inputs for output pair 1 (1Q0, 1Q1). See Table 2.", 28 GND (power) "Ground.", 29 2F0 (in) "Three level function select inputs for output pair 2 (2Q0, 2Q1). See Table 2.", 30 2F1 (in) "Three level function select inputs for output pair 2 (2Q0, 2Q1). See Table 2.", 31 TEST (in) "Three level select. See Test Mode on page 5 under the Block Diagram Description on page 4.", 32 GND (power) "Ground."

## CY7B991V-7JXC
designator U?
RoboClock(R) Low Voltage Programmable Skew Clock Buffer, 3.3 V, 8 Outputs, 3.75 to 80 MHz, 0 to 70 degC, 32-Pin PLCC (JX32), Tube; Manufacturer: Cypress; PartNumber: CY7B991V-7JXC; Input Frequency Max. (MHz): 80; Input Frequency Min. (MHz): 3.75; Max. Operating Voltage (V): 3.6; Min. Operating Voltage (V): 3; No. of Outputs: 8; DatasheetVersion: Rev. *H; PackageVersion: Rev. *D, 07/2011; PackageReference: JX32; PackageDescription: 32-Pin Plastic Leaded Chip Carrier, Body 13.97 x 11.43 mm, Pitch 1.27 mm; Supplier 1: Digi-Key; Supplier Part Number 1: 428-1770-5-ND; Supplier 2: Newark; Supplier Part Number 2: 19M2635; Supplier 3: Mouser; Supplier Part Number 3: 727-CY7B991V-7JXC; Max. Operating Temp. (degreesC): 70; Min. Operating Temp. (degreesC): 0; Output Frequency Max. (MHz): 80; Output Frequency Min. (MHz): 3.75; Packing: Tube; RoHS: Pb-Free; Mounting Technology: Surface Mount; ComponentLink1Description: Manufacturer URL; ComponentLink1URL: http://www.cypress.com/; ComponentLink2Description: Datasheet; ComponentLink2URL: http://www.cypress.com/?docID=46286; ComponentLink3Description: Package Specification; ComponentLink3URL: http://www.cypress.com/?docID=39130
footprint CYP-JX32_N (PLCC, 32-Leads, Body 14.05x11.51mm, Pitch 1.27mm, IPC Medium Density)
footprint CYP-JX32_L (PLCC, 32-Leads, Body 14.05x11.51mm, Pitch 1.27mm, IPC High Density)
footprint CYP-JX32_M (PLCC, 32-Leads, Body 14.05x11.51mm, Pitch 1.27mm, IPC Low Density)
pins: 1 REF (in) "Reference frequency input. This input supplies the frequency and timing against which all functional variations are measured.", 2 VCCQ (power) "Power supply for internal circuitry.", 3 FS (in) "Three level frequency range select. See Table 1.", 4 3F0 (in) "Three level function select inputs for output pair 3 (3Q0, 3Q1). See Table 2.", 5 3F1 (in) "Three level function select inputs for output pair 3 (3Q0, 3Q1). See Table 2.", 6 4F0 (in) "Three level function select inputs for output pair 4 (4Q0, 4Q1). See Table 2.", 7 4F1 (in) "Three level function select inputs for output pair 4 (4Q0, 4Q1). See Table 2.", 8 VCCQ (power) "Power supply for internal circuitry.", 9 VCCN (power) "Power supply for output drivers.", 10 4Q1 (out) "Output pair 4. See Table 2.", 11 4Q0 (out) "Output pair 4. See Table 2.", 12 GND (power) "Ground.", 13 GND (power) "Ground.", 14 3Q1 (out) "Output pair 3. See Table 2.", 15 3Q0 (out) "Output pair 3. See Table 2.", 16 VCCN (power) "Power supply for output drivers.", 17 FB (in) "PLL feedback input (typically connected to one of the eight outputs).", 18 VCCN (power) "Power supply for output drivers.", 19 2Q1 (out) "Output pair 2. See Table 2.", 20 2Q0 (out) "Output pair 2. See Table 2.", 21 GND (power) "Ground.", 22 GND (power) "Ground.", 23 1Q1 (out) "Output pair 1. See Table 2.", 24 1Q0 (out) "Output pair 1. See Table 2.", 25 VCCN (power) "Power supply for output drivers.", 26 1F0 (in) "Three level function select inputs for output pair 1 (1Q0, 1Q1). See Table 2.", 27 1F1 (in) "Three level function select inputs for output pair 1 (1Q0, 1Q1). See Table 2.", 28 GND (power) "Ground.", 29 2F0 (in) "Three level function select inputs for output pair 2 (2Q0, 2Q1). See Table 2.", 30 2F1 (in) "Three level function select inputs for output pair 2 (2Q0, 2Q1). See Table 2.", 31 TEST (in) "Three level select. See Test Mode on page 5 under the Block Diagram Description on page 4.", 32 GND (power) "Ground."

## CY7B991V-7JXCT
designator U?
RoboClock(R) Low Voltage Programmable Skew Clock Buffer, 3.3 V, 8 Outputs, 3.75 to 80 MHz, 0 to 70 degC, 32-Pin PLCC (JX32), Tape and Reel; Manufacturer: Cypress; PartNumber: CY7B991V-7JXCT; Input Frequency Max. (MHz): 80; Input Frequency Min. (MHz): 3.75; Max. Operating Voltage (V): 3.6; Min. Operating Voltage (V): 3; No. of Outputs: 8; DatasheetVersion: Rev. *H; PackageVersion: Rev. *D, 07/2011; PackageReference: JX32; PackageDescription: 32-Pin Plastic Leaded Chip Carrier, Body 13.97 x 11.43 mm, Pitch 1.27 mm; Supplier 1: Digi-Key; Supplier Part Number 1: CY7B991V-7JXCT-ND; Supplier 2: Mouser; Supplier Part Number 2: 727-CY7B991V7JXCT; Max. Operating Temp. (degreesC): 70; Min. Operating Temp. (degreesC): 0; Output Frequency Max. (MHz): 80; Output Frequency Min. (MHz): 3.75; Packing: Tape and Reel; RoHS: Pb-Free; Mounting Technology: Surface Mount; ComponentLink1Description: Manufacturer URL; ComponentLink1URL: http://www.cypress.com/; ComponentLink2Description: Datasheet; ComponentLink2URL: http://www.cypress.com/?docID=46286; ComponentLink3Description: Package Specification; ComponentLink3URL: http://www.cypress.com/?docID=39130
footprint CYP-JX32_N (PLCC, 32-Leads, Body 14.05x11.51mm, Pitch 1.27mm, IPC Medium Density)
footprint CYP-JX32_L (PLCC, 32-Leads, Body 14.05x11.51mm, Pitch 1.27mm, IPC High Density)
footprint CYP-JX32_M (PLCC, 32-Leads, Body 14.05x11.51mm, Pitch 1.27mm, IPC Low Density)
pins: 1 REF (in) "Reference frequency input. This input supplies the frequency and timing against which all functional variations are measured.", 2 VCCQ (power) "Power supply for internal circuitry.", 3 FS (in) "Three level frequency range select. See Table 1.", 4 3F0 (in) "Three level function select inputs for output pair 3 (3Q0, 3Q1). See Table 2.", 5 3F1 (in) "Three level function select inputs for output pair 3 (3Q0, 3Q1). See Table 2.", 6 4F0 (in) "Three level function select inputs for output pair 4 (4Q0, 4Q1). See Table 2.", 7 4F1 (in) "Three level function select inputs for output pair 4 (4Q0, 4Q1). See Table 2.", 8 VCCQ (power) "Power supply for internal circuitry.", 9 VCCN (power) "Power supply for output drivers.", 10 4Q1 (out) "Output pair 4. See Table 2.", 11 4Q0 (out) "Output pair 4. See Table 2.", 12 GND (power) "Ground.", 13 GND (power) "Ground.", 14 3Q1 (out) "Output pair 3. See Table 2.", 15 3Q0 (out) "Output pair 3. See Table 2.", 16 VCCN (power) "Power supply for output drivers.", 17 FB (in) "PLL feedback input (typically connected to one of the eight outputs).", 18 VCCN (power) "Power supply for output drivers.", 19 2Q1 (out) "Output pair 2. See Table 2.", 20 2Q0 (out) "Output pair 2. See Table 2.", 21 GND (power) "Ground.", 22 GND (power) "Ground.", 23 1Q1 (out) "Output pair 1. See Table 2.", 24 1Q0 (out) "Output pair 1. See Table 2.", 25 VCCN (power) "Power supply for output drivers.", 26 1F0 (in) "Three level function select inputs for output pair 1 (1Q0, 1Q1). See Table 2.", 27 1F1 (in) "Three level function select inputs for output pair 1 (1Q0, 1Q1). See Table 2.", 28 GND (power) "Ground.", 29 2F0 (in) "Three level function select inputs for output pair 2 (2Q0, 2Q1). See Table 2.", 30 2F1 (in) "Three level function select inputs for output pair 2 (2Q0, 2Q1). See Table 2.", 31 TEST (in) "Three level select. See Test Mode on page 5 under the Block Diagram Description on page 4.", 32 GND (power) "Ground."